# Altium footprint library PCB1.PcbLib: 34 footprints (part 3 of 3)
Each footprint in its own frame and in the unit in brackets; x right, y up, seen from the top. Pads: shape width x height; smd on the part's side, far side on the other; paste and mask are expansions set on the pad; w line width, h text height; cw(c..) or ccw(c..) is an arc to the next point about the centre after c.
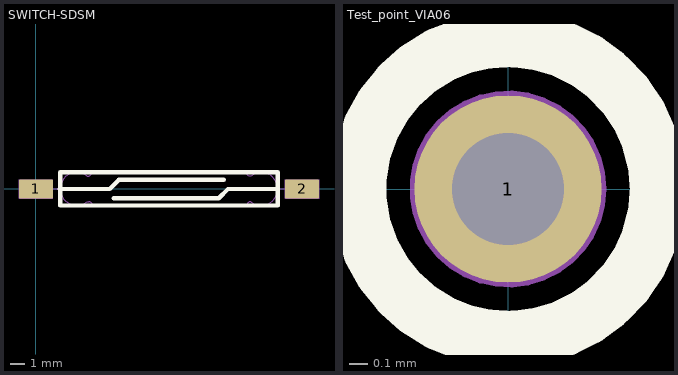
[diagram p2: the footprints below, top view; thin cyan lines are the x and y axes]

## SWITCH-SDSM [mm] "MDSM-4 15.3mm Surface Mount Reed Switch"
height 2.84
pads (2):
  rrect10% 2.34x1.3 smd mask+0.1: 1(0,0) 2(18.34,0)
Top Overlay:
  lines w0.3: 1.651,0 5.08,0 5.715,0.635 12.954,0.635 ; 5.367,-0.635 12.606,-0.635 13.241,0 16.67,0 ; 1.67,-1.14 1.67,1.14 16.67,1.14 16.67,-1.14 1.67,-1.14
Mechanical 1:
  lines w0.05: 1.169,0 1.677,0 ; 3.522,-0.89 cw(c2.813,0.003) 3.531,0.889 3.585,0.889 ccw(c3.585,1.14) 3.836,1.14 14.504,1.14 ccw(c14.751,1.14) 14.81,0.9 ; 3.522,-0.884 3.639,-0.884 cw(c3.639,-1.14) 3.895,-1.14 14.535,-1.14 cw(c14.79,-1.14) 14.79,-0.886 ; 14.802,-0.886 ccw(c15.52,0) 14.812,0.893 ; 16.663,0 17.171,0 ; -1.17,-0.65 -1.17,0.65 1.17,0.65 1.17,-0.65 -1.17,-0.65 ; 17.17,-0.65 19.51,-0.65 19.51,0.65 17.17,0.65 17.17,-0.65
  text "SW?" at 7.747,-0.254 h1

## Test_point_VIA06 [mm] "Test point do not mount"
pads (1):
  round 1 hole 0.6: 1(0,0)
Top Overlay:
  circle w0.3: c0,0 r0.8
Mechanical 1:
  circle w0.05: c0,0 r0.5
  text "TP?" at 0,0 h1